# EAGLE library part TINY26 (library avrs)
8-bit AVR Microcontroller with 2K Bytes Flash Source: http://www.atmel.com .. doc1477.pdf
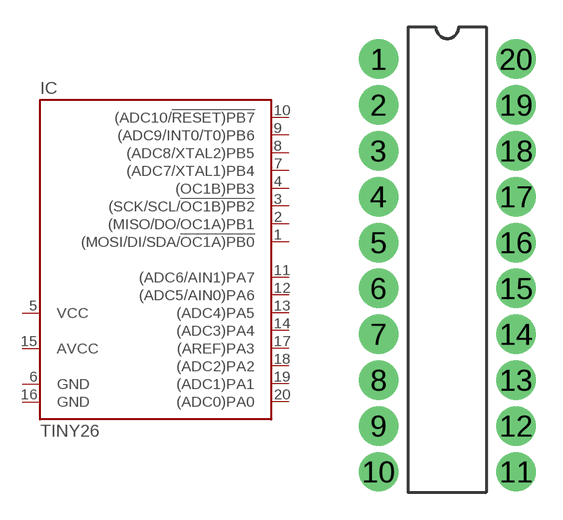
[diagram p3: symbol with the pads of DIL20; footprint DIL20]

Designator prefix IC

## TINY26  [DIL20]
1  (MOSI/DI/SDA/!OC1A)PB0
2  (MISO/DO/OC1A)PB1
3  (SCK/SCL/!OC1B)PB2
4  (OC1B)PB3
5  VCC  pwr
6  GND  pwr
7  (ADC7/XTAL1)PB4
8  (ADC8/XTAL2)PB5
9  (ADC9/INT0/T0)PB6
10  (ADC10/!RESET)PB7
11  (ADC6/AIN1)PA7
12  (ADC5/AIN0)PA6
13  (ADC4)PA5
14  (ADC3)PA4
15  AVCC  pwr
16  GND  pwr
17  (AREF)PA3
18  (ADC2)PA2
19  (ADC1)PA1
20  (ADC0)PA0

## Footprint DIL20 (pad centres in mm)
Dual In Line
drill 1 pad 2.184: 1 -3.81,12.7; 2 -3.81,10.16; 3 -3.81,7.62; 4 -3.81,5.08; 5 -3.81,2.54; 6 -3.81,0; 7 -3.81,-2.54; 8 -3.81,-5.08; 9 -3.81,-7.62; 10 -3.81,-10.16; 11 3.81,-10.16; 12 3.81,-7.62; 13 3.81,-5.08; 14 3.81,-2.54; 15 3.81,0; 16 3.81,2.54; 17 3.81,5.08; 18 3.81,7.62; 19 3.81,10.16; 20 3.81,12.7